# EAGLE library part ILD2* (library optocoupler)
Siemens ILD205/206/207/211/213/217 DUAL PHOTOTRANSISTOR SMALL OUTLINE SURFACE MOUNT OPTOCOUPLER Source: 153385-da-01-en-Optocoupler_ILD205-T.pdf
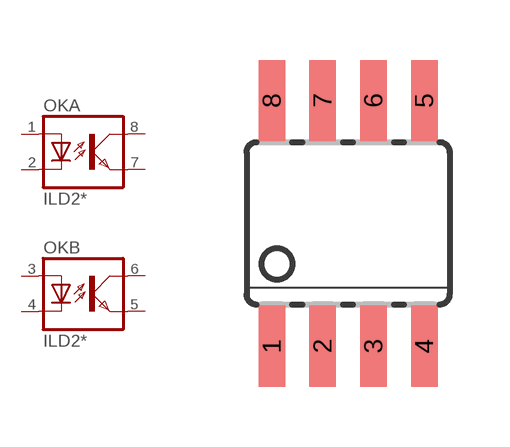
[diagram p35: symbol with the pads of SOIC08; footprint SOIC08]

Designator prefix OK; gates A=OK B=OK

## ILD205 (MF: VISHAY/TELEFUNKEN; MPN: ILD205T; OC_FARNELL: 1469512; OC_NEWARK: 20H8678), ILD206 (MF: VISHAY/TELEFUNKEN; MPN: ILD206T; OC_FARNELL: 1045450; OC_NEWARK: 01H7271), ILD207 (MF: VISHAY/TELEFUNKEN; MPN: ILD207T; OC_FARNELL: 1469603; OC_NEWARK: 97C8648), ILD211 (MF: VISHAY/TELEFUNKEN; MPN: ILD211T; OC_FARNELL: unknown; OC_NEWARK: 20H8679), ILD213 (MF: VISHAY/TELEFUNKEN; MPN: ILD213T; OC_FARNELL: 1045451; OC_NEWARK: 20H8680), ILD217 (MF: VISHAY/TELEFUNKEN; MPN: ILD217T; OC_FARNELL: 1469515RL; OC_NEWARK: 20H8681)  [SOIC08]
1  A:A  pas
2  A:C  pas
3  B:A  pas
4  B:C  pas
5  B:EMIT  pas
6  B:COL  pas
7  A:EMIT  pas
8  A:COL  pas

## Footprint SOIC08 (pad centres in mm)
Small Outline Package
smd 0.66 x 2.032: 1 -1.905,-3.073; 2 -0.635,-3.073; 3 0.635,-3.073; 4 1.905,-3.073; 5 1.905,3.073; 6 0.635,3.073; 7 -0.635,3.073; 8 -1.905,3.073